# EAGLE library part 74S260D (library EW_IC_74_Logic)
5-input positive nor gate. Category: Gates Manufacturer: Generic
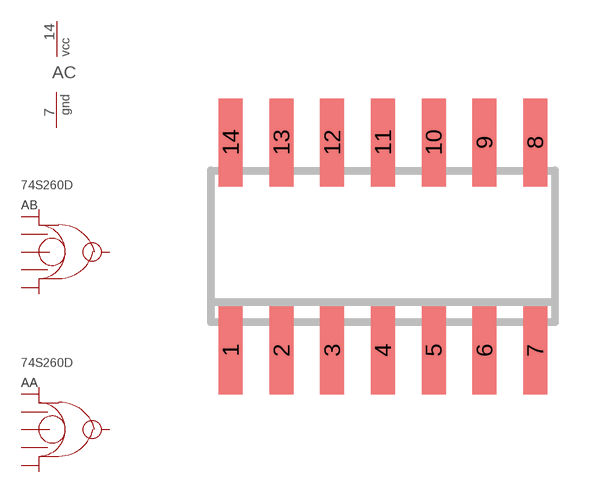
[diagram p53: symbol with the pads of SO14; footprint SO14]

Designator prefix A; gates A=NOR_5 B=NOR_5 C=PWRN

## 74S260D  [SO14]
1  A:A  pwr
2  A:B  pwr
3  A:C  pwr
4  B:A  pwr
5  A:Y  pwr
6  B:Y  pwr
7  C:GND  pwr
8  B:B  pwr
9  B:C  pwr
10  B:D  pwr
11  B:E  pwr
12  A:D  pwr
13  A:E  pwr
14  C:VCC  pwr

## Footprint SO14 (pad centres in mm)
SMALL OUTLINE INTEGRATED CIRCUIT body 3.9 mm/JEDEC MS-012AC
smd 0.6 x 2.2: 1 -3.81,-2.6; 2 -2.54,-2.6; 3 -1.27,-2.6; 4 0,-2.6; 5 1.27,-2.6; 6 2.54,-2.6; 7 3.81,-2.6; 8 3.81,2.6; 9 2.54,2.6; 10 1.27,2.6; 11 0,2.6; 12 -1.27,2.6; 13 -2.54,2.6; 14 -3.81,2.6